# EAGLE library part ICL8038 (library GuShH)
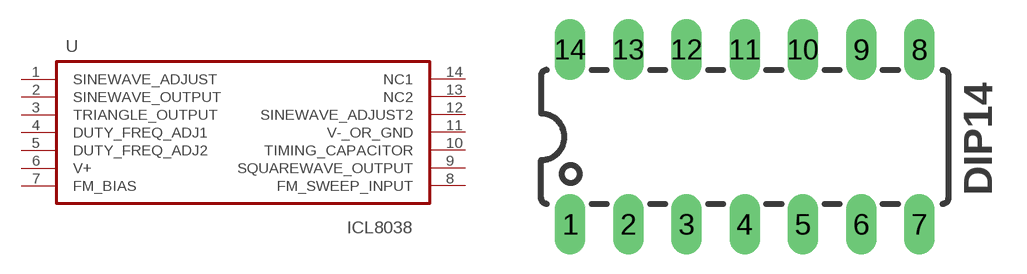
[diagram p4: symbol with the pads of DIP14; footprint DIP14]

Designator prefix -

## ICL8038  [DIP14]
1  SINEWAVE_ADJUST
2  SINEWAVE_OUTPUT
3  TRIANGLE_OUTPUT
4  DUTY_FREQ_ADJ1
5  DUTY_FREQ_ADJ2
6  V+
7  FM_BIAS
8  FM_SWEEP_INPUT
9  SQUAREWAVE_OUTPUT
10  TIMING_CAPACITOR
11  V-_OR_GND
12  SINEWAVE_ADJUST2
13  NC2  nc
14  NC1  nc

## Footprint DIP14 (pad centres in mm)
drill 0.813 long: 1 -7.62,-3.81; 2 -5.08,-3.81; 3 -2.54,-3.81; 4 0,-3.81; 5 2.54,-3.81; 6 5.08,-3.81; 7 7.62,-3.81; 8 7.62,3.81; 9 5.08,3.81; 10 2.54,3.81; 11 0,3.81; 12 -2.54,3.81; 13 -5.08,3.81; 14 -7.62,3.81